# EAGLE library part TPS65721 (library NM_Visual_Cortex_12-10-18)
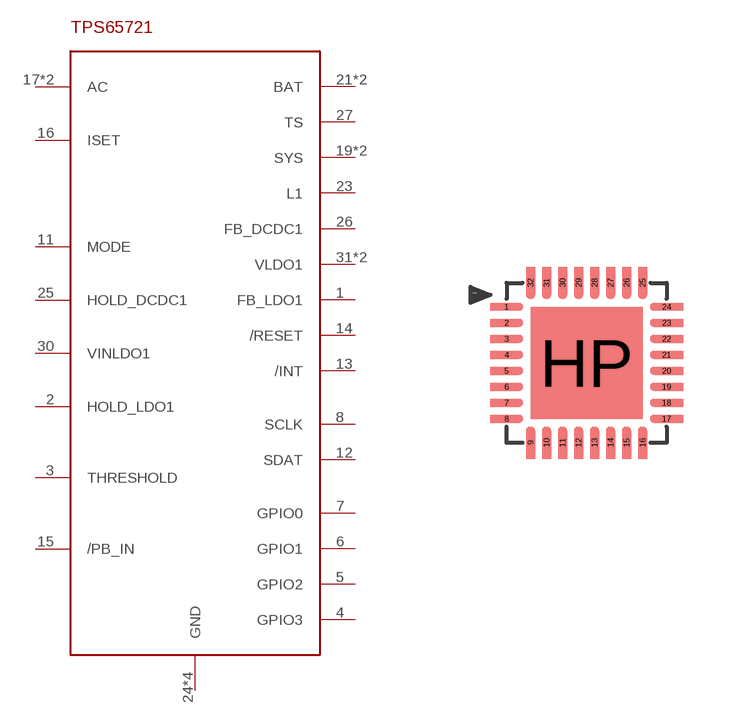
[diagram p7: symbol with the pads of S-PWQFN-N32; footprint S-PWQFN-N32]

Designator prefix -

## TPS65721 (MPN: TPS65721; SUPPLIER: TEXAS INSTRUMENTS)  [S-PWQFN-N32]
1  FB_LDO1
2  HOLD_LDO1
3  THRESHOLD
4  GPIO3
5  GPIO2
6  GPIO1
7  GPIO0
8  SCLK
11  MODE
12  SDAT
13  /INT
14  /RESET
15  /PB_IN
16  ISET
17  AC
18  AC
19  SYS
20  SYS
21  BAT
22  BAT
23  L1
24  GND
25  HOLD_DCDC1
26  FB_DCDC1
27  TS
28  GND
29  GND
30  VINLDO1
31  VLDO1
32  VLDO1
HP  GND

## Footprint S-PWQFN-N32 (pad centres in mm)
smd 0.1 x 0.1: 1 -2,1.4; 2 -2,1; 3 -2,0.6; 4 -2,0.2; 5 -2,-0.2; 6 -2,-0.6; 7 -2,-1; 8 -2,-1.4; 9 -1.4,-2; 10 -1,-2; 11 -0.6,-2; 12 -0.2,-2; 13 0.2,-2; 14 0.6,-2; 15 1,-2; 16 1.4,-2; 17 2,-1.4; 18 2,-1; 19 2,-0.6; 20 2,-0.2; 21 2,0.2; 22 2,0.6; 23 2,1; 24 2,1.4; 25 1.4,2; 26 1,2; 27 0.6,2; 28 0.2,2; 29 -0.2,2; 30 -0.6,2; 31 -1,2; 32 -1.4,2
smd 2.8 x 2.8: HP 0,0